# Altium footprint library SuperLib.PcbLib: 31 footprints (part 2 of 2)
Each footprint in its own frame and in the unit in brackets; x right, y up, seen from the top. Pads: shape width x height; smd on the part's side, far side on the other; paste and mask are expansions set on the pad; w line width, h text height; cw(c..) or ccw(c..) is an arc to the next point about the centre after c.
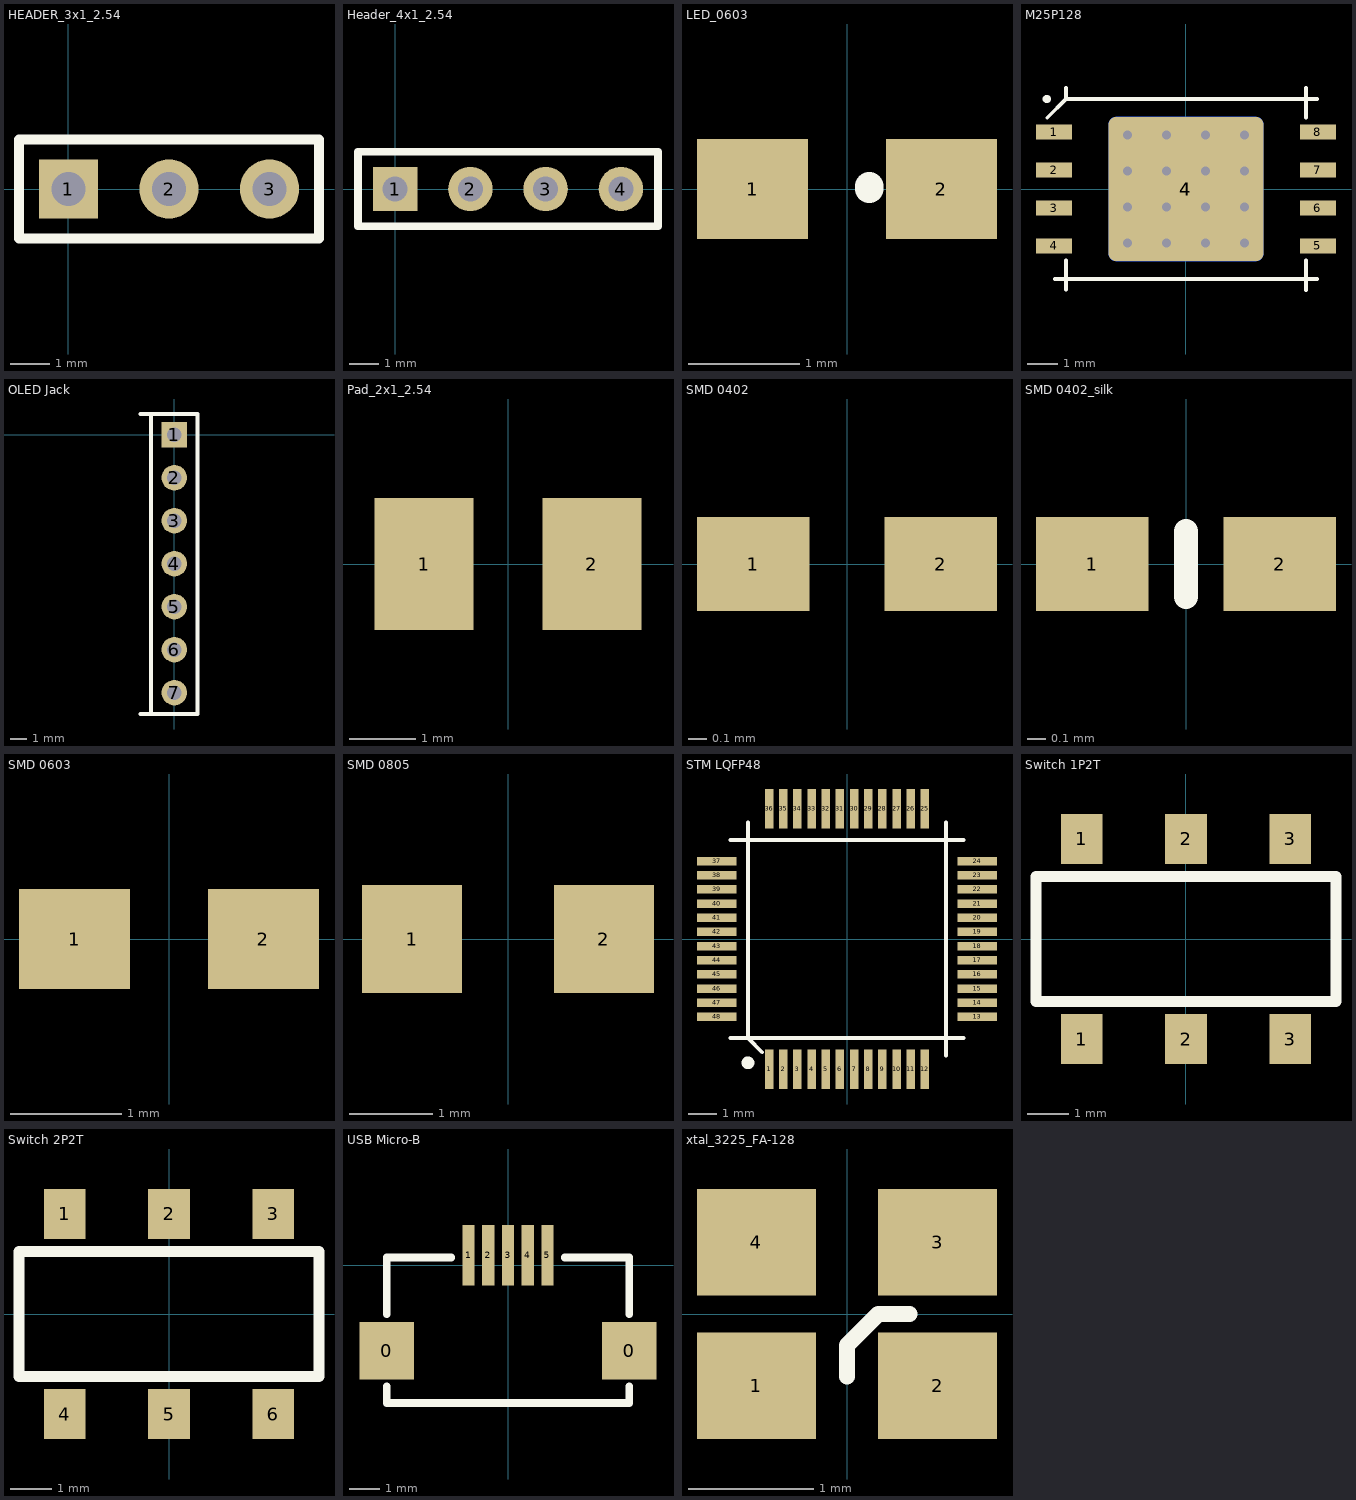
[diagram p1: the footprints below, top view; thin cyan lines are the x and y axes]

## HEADER_3x1_2.54 [mm]
pads (3):
  rect 1.5x1.5 hole 0.85 paste+0 mask+0: 1(0,0)
  round 1.5 hole 0.85 paste+0 mask+0: 2(2.54,0) 3(5.08,0)
Top Overlay:
  lines w0.254: -1.25,-1.25 -1.25,1.25 6.33,1.25 6.33,-1.25 -1.25,-1.25

## Header_4x1_2.54 [mm]
pads (4):
  rect 1.5x1.5 hole 0.85 paste+0 mask+0: 1(0,0)
  round 1.5 hole 0.85 paste+0 mask+0: 2(2.54,0) 3(5.08,0) 4(7.62,0)
Top Overlay:
  lines w0.254: 8.87,1.225 8.87,-1.25 -1.25,-1.25 -1.25,1.25 8.87,1.25

## LED_0603 [mm]
pads (2):
  rect 1x0.9 smd paste+0 mask+0: 1(-0.85,0)
  rect 1x0.9 smd mask+0: 2(0.85,0)
Top Overlay:
  lines w0.254: 0.2,0 0.2,0.025

## M25P128 [mm]
pads (10):
  rect 1.2x0.5 smd paste+0 mask+0: 1(-4.4,1.9) 2(-4.4,0.633) 3(-4.4,-0.633) 4(-4.4,-1.9) 5(4.4,-1.9) 6(4.4,-0.633) 7(4.4,0.633) 8(4.4,1.9)
  rrect10% 5.16x4.8 smd paste+0 mask+0: 4(0,0)
  rrect10% 5.16x4.8 smd far side paste+0 mask+0: 4(0,0)
via 1.95,1.8 diameter 0.4 hole 0.3
via 0.65,0.6 diameter 0.4 hole 0.3
via -0.65,-0.6 diameter 0.4 hole 0.3
via 0.65,-0.6 diameter 0.4 hole 0.3
via -1.95,-0.6 diameter 0.4 hole 0.3
via 1.95,-0.6 diameter 0.4 hole 0.3
via 0.65,1.8 diameter 0.4 hole 0.3
via 0.65,-1.8 diameter 0.4 hole 0.3
via 1.95,-1.8 diameter 0.4 hole 0.3
via 1.95,0.6 diameter 0.4 hole 0.3
via -0.65,1.8 diameter 0.4 hole 0.3
via -1.95,1.8 diameter 0.4 hole 0.3
via -1.95,0.6 diameter 0.4 hole 0.3
via -0.65,0.6 diameter 0.4 hole 0.3
via -0.65,-1.8 diameter 0.4 hole 0.3
via -1.95,-1.8 diameter 0.4 hole 0.3
Top Overlay:
  lines w0.13: -4.625,2.375 -4,3 ; -4.375,-3 -4,-3 ; -4,-3.35 -4,-3 ; -4,-2.375 -4,-3 ; -4,3.375 -4,3 ; 4,-3.375 4,-3 ; 4,-2.375 4,-3 ; 4,2.375 4,3 ; 4,3.375 4,3 ; 4.375,-3 4,-3 ; 4.375,3 4,3 ; -4,-3 4,-3 ; -4,3 4,3 ; -3.625,3 -3.625,3
  lines w0.254: -4.65,3 -4.625,3

## OLED Jack [mm]
pads (7):
  rect 1.5x1.5 hole 0.85 paste+0 mask+0: 1(0,0)
  round 1.5 hole 0.85 paste+0 mask+0: 2(0,-2.54) 3(0,-5.08) 4(0,-7.62) 5(0,-10.16) 6(0,-12.7) 7(0,-15.24)
Top Overlay:
  lines w0.254: -2,-16.5 -1.375,-16.5 ; -2,1.225 -1.375,1.225 ; -1.375,-16.5 -1.375,1.225 ; -1.375,-16.5 1.375,-16.5 1.375,1.225 -1.375,1.225

## Pad_2x1_2.54 [mm]
pads (2):
  rect 1.5x2 smd paste+0 mask+0: 1(-1.27,0) 2(1.27,0)

## SMD 0402 [mm]
pads (2):
  rect 0.6x0.5 smd paste+0 mask+0: 1(-0.5,0) 2(0.5,0)

## SMD 0402_silk [mm]
pads (2):
  rect 0.6x0.5 smd paste+0 mask+0: 1(-0.5,0) 2(0.5,0)
Top Overlay:
  lines w0.13: 0,-0.175 0,0.175

## SMD 0603 [mm]
pads (2):
  rect 1x0.9 smd paste+0 mask+0: 1(-0.85,0)
  rect 1x0.9 smd mask+0: 2(0.85,0)

## SMD 0805 [mm]
pads (2):
  rect 1.2x1.3 smd paste+0 mask+0: 1(-1.15,0) 2(1.15,0)

## STM LQFP48 [mm] "48-Pin LQFP"
pads (48):
  rect 0.3x1.4 smd paste+0 mask+0: 1(-2.75,-4.6) 2(-2.25,-4.6) 3(-1.75,-4.6) 4(-1.25,-4.6) 5(-0.75,-4.6) 6(-0.25,-4.6) 7(0.25,-4.6) 8(0.75,-4.6) 9(1.25,-4.6) 10(1.75,-4.6) 11(2.25,-4.6) 12(2.75,-4.6) 25(2.75,4.6) 26(2.25,4.6) 27(1.75,4.6) 28(1.25,4.6) 29(0.75,4.6) 30(0.25,4.6) 31(-0.25,4.6) 32(-0.75,4.6) 33(-1.25,4.6) 34(-1.75,4.6) 35(-2.25,4.6) 36(-2.75,4.6)
  rect 1.4x0.3 smd paste+0 mask+0: 13(4.6,-2.75) 14(4.6,-2.25) 15(4.6,-1.75) 16(4.6,-1.25) 17(4.6,-0.75) 18(4.6,-0.25) 19(4.6,0.25) 20(4.6,0.75) 21(4.6,1.25) 22(4.6,1.75) 23(4.6,2.25) 24(4.6,2.75) 37(-4.6,2.75) 38(-4.6,2.25) 39(-4.6,1.75) 40(-4.6,1.25) 41(-4.6,0.75) 42(-4.6,0.25) 43(-4.6,-0.25) 44(-4.6,-0.75) 45(-4.6,-1.25) 46(-4.6,-1.75) 47(-4.6,-2.25) 48(-4.6,-2.75)
Top Overlay:
  lines w0.13: -4.125,-3.5 -3.5,-3.5 ; -4.125,3.5 -3.5,3.5 ; -3.5,4.125 -3.5,3.5 ; -3,-4 -3.5,-3.5 ; 3.5,-4.125 3.5,-3.5 ; 3.5,4.125 3.5,3.5 ; 4.125,-3.5 3.5,-3.5 ; 4.125,3.5 3.5,3.5 ; -3.5,-3.5 -3.5,-3.5 ; -3.5,-3.5 -3.5,3.5 ; -3.5,-3.5 3.5,-3.5 ; -3.5,3.5 3.5,3.5 ; 3.5,-3.5 3.5,3.5
  lines w0.254: -3.401,-4.39 cw(c-3.5,-4.375) -3.4,-4.375

## Switch 1P2T [mm]
pads (6):
  rect 1x1.2 smd: 1(-2.5,-2.4) 1(-2.5,2.4) 2(0,-2.4) 3(2.5,-2.4) 3(2.5,2.4)
  rect 1x1.2 smd mask+0.1: 2(0,2.4)
Top Overlay:
  lines w0.254: -3.6,-1.5 -3.6,1.5 3.6,1.5 3.6,-1.5 -3.6,-1.5

## Switch 2P2T [mm]
pads (6):
  rect 1x1.2 smd: 1(-2.5,2.4) 3(2.5,2.4) 4(-2.5,-2.4) 5(0,-2.4) 6(2.5,-2.4)
  rect 1x1.2 smd mask+0.1: 2(0,2.4)
Top Overlay:
  lines w0.254: -3.6,-1.5 -3.6,1.5 3.6,1.5 3.6,-1.5 -3.6,-1.5

## USB Micro-B [mm]
pads (7):
  rect 1.8x1.9 smd paste+0 mask+0: 0(-4,-2.825) 0(4,-2.825)
  rect 0.4x2 smd paste+0 mask+0: 1(-1.3,0.325) 2(-0.65,0.325) 3(0,0.325) 4(0.65,0.325) 5(1.3,0.325)
Top Overlay:
  lines w0.254: -4,-4 -4,-4.55 -3.125,-4.55 4,-4.55 4,-4 ; -4,-1.625 -4,0.25 -1.875,0.25 ; 1.875,0.25 4,0.25 4,-1.625

## xtal_3225_FA-128 [mm]
pads (4):
  rect 0.95x0.85 smd paste+0 mask+0: 1(-0.725,-0.575) 2(0.725,-0.575) 3(0.725,0.575) 4(-0.725,0.575)
Top Overlay:
  lines w0.13: 0,-0.5 0,-0.25 0.25,0 0.5,0